# EAGLE library part SPC560P50L3CEFAR (library 2025-07-09_19-35-04_Library)
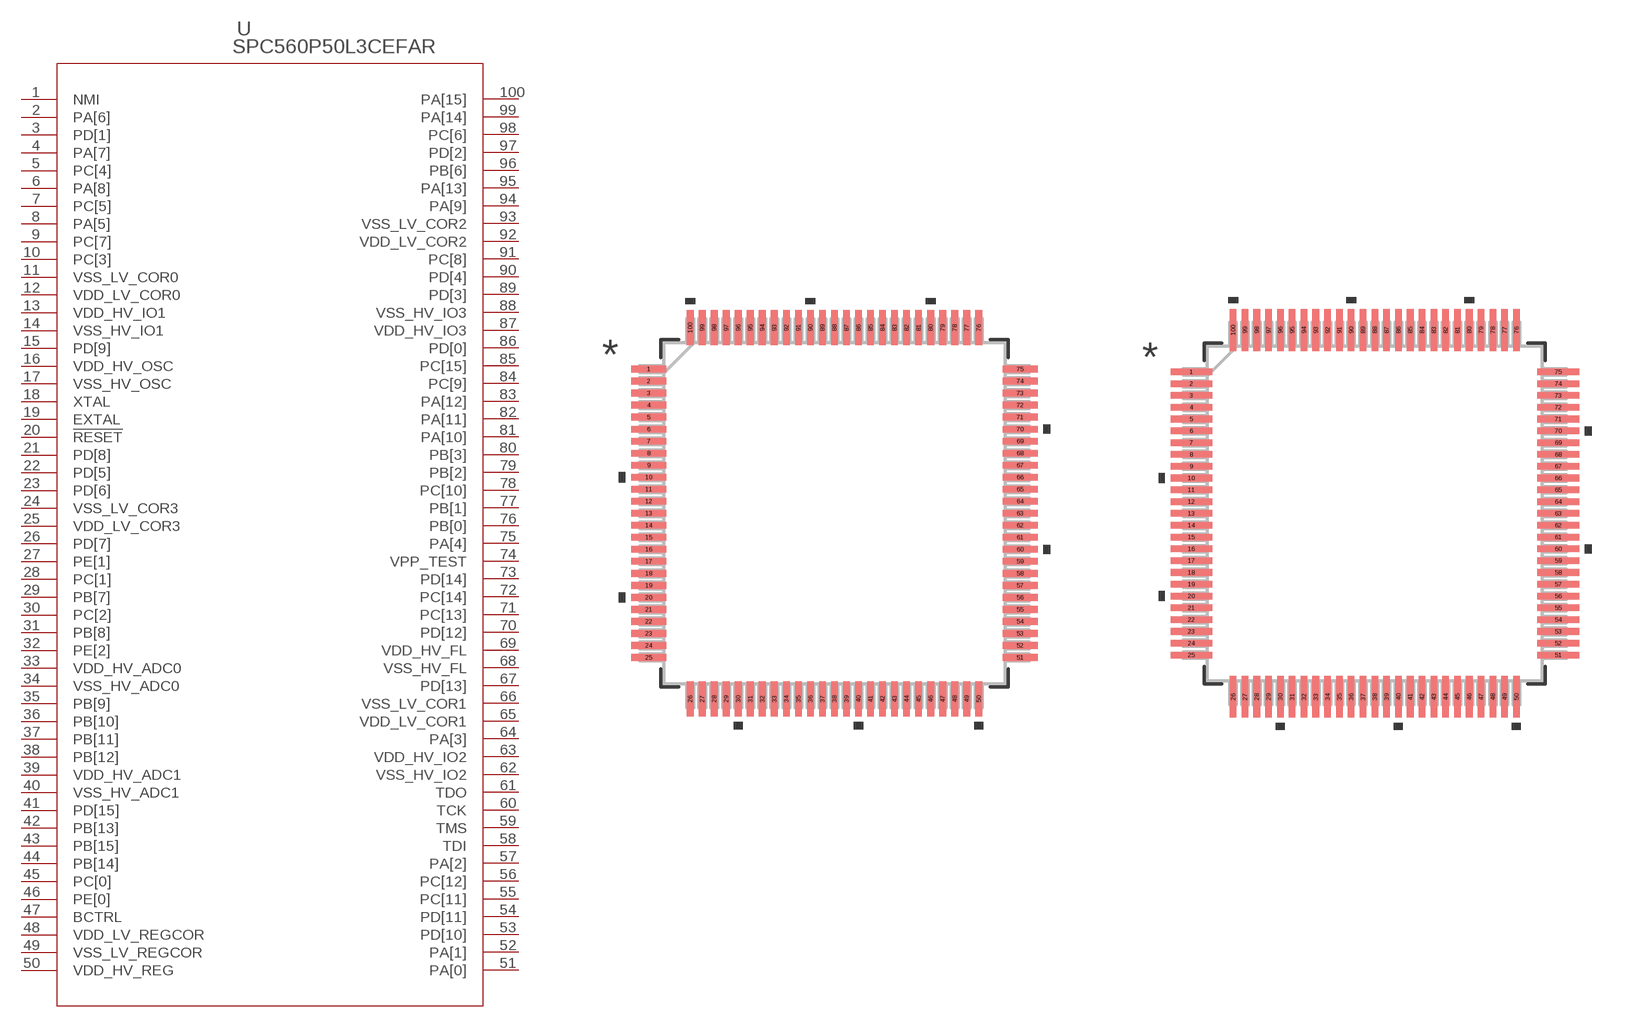
[diagram p0: symbol with the pads of LQFP100_STM; footprints LQFP100_STM, LQFP100_STM-M]

Designator prefix U

## SPC560P50L3CEFARLQFP100_STM (Copyright: Copyright (C) 2025 Ultra Librarian. All rights reserved.; Datasheet: https://www.st.com/resource/en/datasheet/spc560p44l3.pdf; Description: 32-bit Power Architecture MCU for Automotive Chassis and Safety Applications; Digi-Key_Part_Number_1: 497-11615-2-ND; Digi-Key_Part_Number_2: 497-11615-1-ND; Digi-Key_Part_Number_3: 497-11615-6-ND; Manufacturer_Name: STMicroelectronics; Manufacturer_Part_Number: SPC560P50L3CEFAR)  [LQFP100_STM]
1  NMI  pas
2  PA[6]
3  PD[1]
4  PA[7]
5  PC[4]
6  PA[8]
7  PC[5]
8  PA[5]
9  PC[7]
10  PC[3]
11  VSS_LV_COR0  pas
12  VDD_LV_COR0  pwr
13  VDD_HV_IO1  pwr
14  VSS_HV_IO1  pas
15  PD[9]
16  VDD_HV_OSC  pwr
17  VSS_HV_OSC  pas
18  XTAL  pas
19  EXTAL  pas
20  !RESET  pas
21  PD[8]
22  PD[5]
23  PD[6]
24  VSS_LV_COR3  pas
25  VDD_LV_COR3  pwr
26  PD[7]
27  PE[1]
28  PC[1]
29  PB[7]
30  PC[2]
31  PB[8]
32  PE[2]
33  VDD_HV_ADC0  pwr
34  VSS_HV_ADC0  pas
35  PB[9]
36  PB[10]
37  PB[11]
38  PB[12]
39  VDD_HV_ADC1  pwr
40  VSS_HV_ADC1  pas
41  PD[15]
42  PB[13]
43  PB[15]
44  PB[14]
45  PC[0]
46  PE[0]
47  BCTRL  pas
48  VDD_LV_REGCOR  pwr
49  VSS_LV_REGCOR  pas
50  VDD_HV_REG  pwr
51  PA[0]
52  PA[1]
53  PD[10]
54  PD[11]
55  PC[11]
56  PC[12]
57  PA[2]
58  TDI  pas
59  TMS  pas
60  TCK  pas
61  TDO  pas
62  VSS_HV_IO2  pas
63  VDD_HV_IO2  pwr
64  PA[3]
65  VDD_LV_COR1  pwr
66  VSS_LV_COR1  pas
67  PD[13]
68  VSS_HV_FL  pas
69  VDD_HV_FL  pwr
70  PD[12]
71  PC[13]
72  PC[14]
73  PD[14]
74  VPP_TEST  pwr
75  PA[4]
76  PB[0]
77  PB[1]
78  PC[10]
79  PB[2]
80  PB[3]
81  PA[10]
82  PA[11]
83  PA[12]
84  PC[9]
85  PC[15]
86  PD[0]
87  VDD_HV_IO3  pwr
88  VSS_HV_IO3  pas
89  PD[3]
90  PD[4]
91  PC[8]
92  VDD_LV_COR2  pwr
93  VSS_LV_COR2  pas
94  PA[9]
95  PA[13]
96  PB[6]
97  PD[2]
98  PC[6]
99  PA[14]
100  PA[15]

## SPC560P50L3CEFARLQFP100_STM-M (Copyright: Copyright (C) 2025 Ultra Librarian. All rights reserved.; Datasheet: https://www.st.com/resource/en/datasheet/spc560p44l3.pdf; Description: 32-bit Power Architecture MCU for Automotive Chassis and Safety Applications; Digi-Key_Part_Number_1: 497-11615-2-ND; Digi-Key_Part_Number_2: 497-11615-1-ND; Digi-Key_Part_Number_3: 497-11615-6-ND; Manufacturer_Name: STMicroelectronics; Manufacturer_Part_Number: SPC560P50L3CEFAR)  [LQFP100_STM-M]
Pads as for LQFP100_STM

## SPC560P50L3CEFARLQFP100_STM-L (Copyright: Copyright (C) 2025 Ultra Librarian. All rights reserved.; Datasheet: https://www.st.com/resource/en/datasheet/spc560p44l3.pdf; Description: 32-bit Power Architecture MCU for Automotive Chassis and Safety Applications; Digi-Key_Part_Number_1: 497-11615-2-ND; Digi-Key_Part_Number_2: 497-11615-1-ND; Digi-Key_Part_Number_3: 497-11615-6-ND; Manufacturer_Name: STMicroelectronics; Manufacturer_Part_Number: SPC560P50L3CEFAR)  [LQFP100_STM-L]
Pads as for LQFP100_STM

## Footprint LQFP100_STM (pad centres in mm)
smd 1.462 x 0.279: 1 -7.722,6; 2 -7.722,5.5; 3 -7.722,5; 4 -7.722,4.5; 5 -7.722,4; 6 -7.722,3.5; 7 -7.722,3; 8 -7.722,2.5; 9 -7.722,2; 10 -7.722,1.5; 11 -7.722,1; 12 -7.722,0.5; 13 -7.722,0; 14 -7.722,-0.5; 15 -7.722,-1; 16 -7.722,-1.5; 17 -7.722,-2; 18 -7.722,-2.5; 19 -7.722,-3; 20 -7.722,-3.5; 21 -7.722,-4; 22 -7.722,-4.5; 23 -7.722,-5; 24 -7.722,-5.5; 25 -7.722,-6; 51 7.722,-6; 52 7.722,-5.5; 53 7.722,-5; 54 7.722,-4.5; 55 7.722,-4; 56 7.722,-3.5; 57 7.722,-3; 58 7.722,-2.5; 59 7.722,-2; 60 7.722,-1.5; 61 7.722,-1; 62 7.722,-0.5; 63 7.722,0; 64 7.722,0.5; 65 7.722,1; 66 7.722,1.5; 67 7.722,2; 68 7.722,2.5; 69 7.722,3; 70 7.722,3.5; 71 7.722,4; 72 7.722,4.5; 73 7.722,5; 74 7.722,5.5; 75 7.722,6
smd 0.279 x 1.462: 26 -6,-7.722; 27 -5.5,-7.722; 28 -5,-7.722; 29 -4.5,-7.722; 30 -4,-7.722; 31 -3.5,-7.722; 32 -3,-7.722; 33 -2.5,-7.722; 34 -2,-7.722; 35 -1.5,-7.722; 36 -1,-7.722; 37 -0.5,-7.722; 38 0,-7.722; 39 0.5,-7.722; 40 1,-7.722; 41 1.5,-7.722; 42 2,-7.722; 43 2.5,-7.722; 44 3,-7.722; 45 3.5,-7.722; 46 4,-7.722; 47 4.5,-7.722; 48 5,-7.722; 49 5.5,-7.722; 50 6,-7.722; 76 6,7.722; 77 5.5,7.722; 78 5,7.722; 79 4.5,7.722; 80 4,7.722; 81 3.5,7.722; 82 3,7.722; 83 2.5,7.722; 84 2,7.722; 85 1.5,7.722; 86 1,7.722; 87 0.5,7.722; 88 0,7.722; 89 -0.5,7.722; 90 -1,7.722; 91 -1.5,7.722; 92 -2,7.722; 93 -2.5,7.722; 94 -3,7.722; 95 -3.5,7.722; 96 -4,7.722; 97 -4.5,7.722; 98 -5,7.722; 99 -5.5,7.722; 100 -6,7.722

## Footprint LQFP100_STM-M (pad centres in mm)
smd 1.762 x 0.279: 1 -7.772,6; 2 -7.772,5.5; 3 -7.772,5; 4 -7.772,4.5; 5 -7.772,4; 6 -7.772,3.5; 7 -7.772,3; 8 -7.772,2.5; 9 -7.772,2; 10 -7.772,1.5; 11 -7.772,1; 12 -7.772,0.5; 13 -7.772,0; 14 -7.772,-0.5; 15 -7.772,-1; 16 -7.772,-1.5; 17 -7.772,-2; 18 -7.772,-2.5; 19 -7.772,-3; 20 -7.772,-3.5; 21 -7.772,-4; 22 -7.772,-4.5; 23 -7.772,-5; 24 -7.772,-5.5; 25 -7.772,-6; 51 7.772,-6; 52 7.772,-5.5; 53 7.772,-5; 54 7.772,-4.5; 55 7.772,-4; 56 7.772,-3.5; 57 7.772,-3; 58 7.772,-2.5; 59 7.772,-2; 60 7.772,-1.5; 61 7.772,-1; 62 7.772,-0.5; 63 7.772,0; 64 7.772,0.5; 65 7.772,1; 66 7.772,1.5; 67 7.772,2; 68 7.772,2.5; 69 7.772,3; 70 7.772,3.5; 71 7.772,4; 72 7.772,4.5; 73 7.772,5; 74 7.772,5.5; 75 7.772,6
smd 0.279 x 1.762: 26 -6,-7.772; 27 -5.5,-7.772; 28 -5,-7.772; 29 -4.5,-7.772; 30 -4,-7.772; 31 -3.5,-7.772; 32 -3,-7.772; 33 -2.5,-7.772; 34 -2,-7.772; 35 -1.5,-7.772; 36 -1,-7.772; 37 -0.5,-7.772; 38 0,-7.772; 39 0.5,-7.772; 40 1,-7.772; 41 1.5,-7.772; 42 2,-7.772; 43 2.5,-7.772; 44 3,-7.772; 45 3.5,-7.772; 46 4,-7.772; 47 4.5,-7.772; 48 5,-7.772; 49 5.5,-7.772; 50 6,-7.772; 76 6,7.772; 77 5.5,7.772; 78 5,7.772; 79 4.5,7.772; 80 4,7.772; 81 3.5,7.772; 82 3,7.772; 83 2.5,7.772; 84 2,7.772; 85 1.5,7.772; 86 1,7.772; 87 0.5,7.772; 88 0,7.772; 89 -0.5,7.772; 90 -1,7.772; 91 -1.5,7.772; 92 -2,7.772; 93 -2.5,7.772; 94 -3,7.772; 95 -3.5,7.772; 96 -4,7.772; 97 -4.5,7.772; 98 -5,7.772; 99 -5.5,7.772; 100 -6,7.772

## Footprint LQFP100_STM-L (pad centres in mm)
smd 1.162 x 0.229: 1 -7.672,6; 2 -7.672,5.5; 3 -7.672,5; 4 -7.672,4.5; 5 -7.672,4; 6 -7.672,3.5; 7 -7.672,3; 8 -7.672,2.5; 9 -7.672,2; 10 -7.672,1.5; 11 -7.672,1; 12 -7.672,0.5; 13 -7.672,0; 14 -7.672,-0.5; 15 -7.672,-1; 16 -7.672,-1.5; 17 -7.672,-2; 18 -7.672,-2.5; 19 -7.672,-3; 20 -7.672,-3.5; 21 -7.672,-4; 22 -7.672,-4.5; 23 -7.672,-5; 24 -7.672,-5.5; 25 -7.672,-6; 51 7.672,-6; 52 7.672,-5.5; 53 7.672,-5; 54 7.672,-4.5; 55 7.672,-4; 56 7.672,-3.5; 57 7.672,-3; 58 7.672,-2.5; 59 7.672,-2; 60 7.672,-1.5; 61 7.672,-1; 62 7.672,-0.5; 63 7.672,0; 64 7.672,0.5; 65 7.672,1; 66 7.672,1.5; 67 7.672,2; 68 7.672,2.5; 69 7.672,3; 70 7.672,3.5; 71 7.672,4; 72 7.672,4.5; 73 7.672,5; 74 7.672,5.5; 75 7.672,6
smd 0.229 x 1.162: 26 -6,-7.672; 27 -5.5,-7.672; 28 -5,-7.672; 29 -4.5,-7.672; 30 -4,-7.672; 31 -3.5,-7.672; 32 -3,-7.672; 33 -2.5,-7.672; 34 -2,-7.672; 35 -1.5,-7.672; 36 -1,-7.672; 37 -0.5,-7.672; 38 0,-7.672; 39 0.5,-7.672; 40 1,-7.672; 41 1.5,-7.672; 42 2,-7.672; 43 2.5,-7.672; 44 3,-7.672; 45 3.5,-7.672; 46 4,-7.672; 47 4.5,-7.672; 48 5,-7.672; 49 5.5,-7.672; 50 6,-7.672; 76 6,7.672; 77 5.5,7.672; 78 5,7.672; 79 4.5,7.672; 80 4,7.672; 81 3.5,7.672; 82 3,7.672; 83 2.5,7.672; 84 2,7.672; 85 1.5,7.672; 86 1,7.672; 87 0.5,7.672; 88 0,7.672; 89 -0.5,7.672; 90 -1,7.672; 91 -1.5,7.672; 92 -2,7.672; 93 -2.5,7.672; 94 -3,7.672; 95 -3.5,7.672; 96 -4,7.672; 97 -4.5,7.672; 98 -5,7.672; 99 -5.5,7.672; 100 -6,7.672